# EAGLE library part DRV8825 (library CasaLibrary)
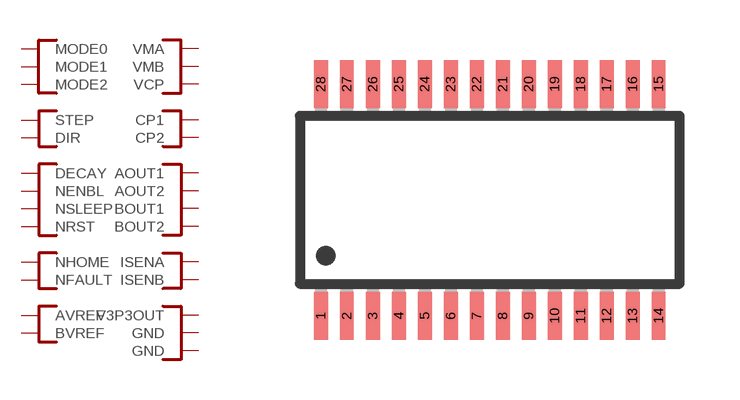
[diagram p4: symbol with the pads of TSSOP28; footprint TSSOP28]

Designator prefix -

## DRV8825  [TSSOP28]
1  CP1
2  CP2
3  VCP
4  VMA
5  AOUT1
6  ISENA
7  AOUT2
8  BOUT2
9  ISENB
10  BOUT1
11  VMB
12  AVREF
13  BVREF
14  GND
15  V3P3OUT
16  NRST
17  NSLEEP
18  NFAULT
19  DECAY
20  DIR
21  NENBL
22  STEP
24  MODE0
25  MODE1
26  MODE2
27  NHOME
28  GND

## Footprint TSSOP28 (pad centres in mm)
28-Lead TSSOP Package RU-28
smd 0.35 x 1.2: 1 -4.225,-2.9; 2 -3.575,-2.9; 3 -2.925,-2.9; 4 -2.275,-2.9; 5 -1.625,-2.9; 6 -0.975,-2.9; 7 -0.325,-2.9; 8 0.325,-2.9; 9 0.975,-2.9; 10 1.625,-2.9; 11 2.275,-2.9; 12 2.925,-2.9; 13 3.575,-2.9; 14 4.225,-2.9; 15 4.225,2.9; 16 3.575,2.9; 17 2.925,2.9; 18 2.275,2.9; 19 1.625,2.9; 20 0.975,2.9; 21 0.325,2.9; 22 -0.325,2.9; 23 -0.975,2.9; 24 -1.625,2.9; 25 -2.275,2.9; 26 -2.925,2.9; 27 -3.575,2.9; 28 -4.225,2.9